# Altium schematic symbol library nPOC-BB_gamma_main-board.SCHLIB: 94 symbols (part 1 of 2)
Pins are listed as number, name and electrical type; pins without a type are passive.

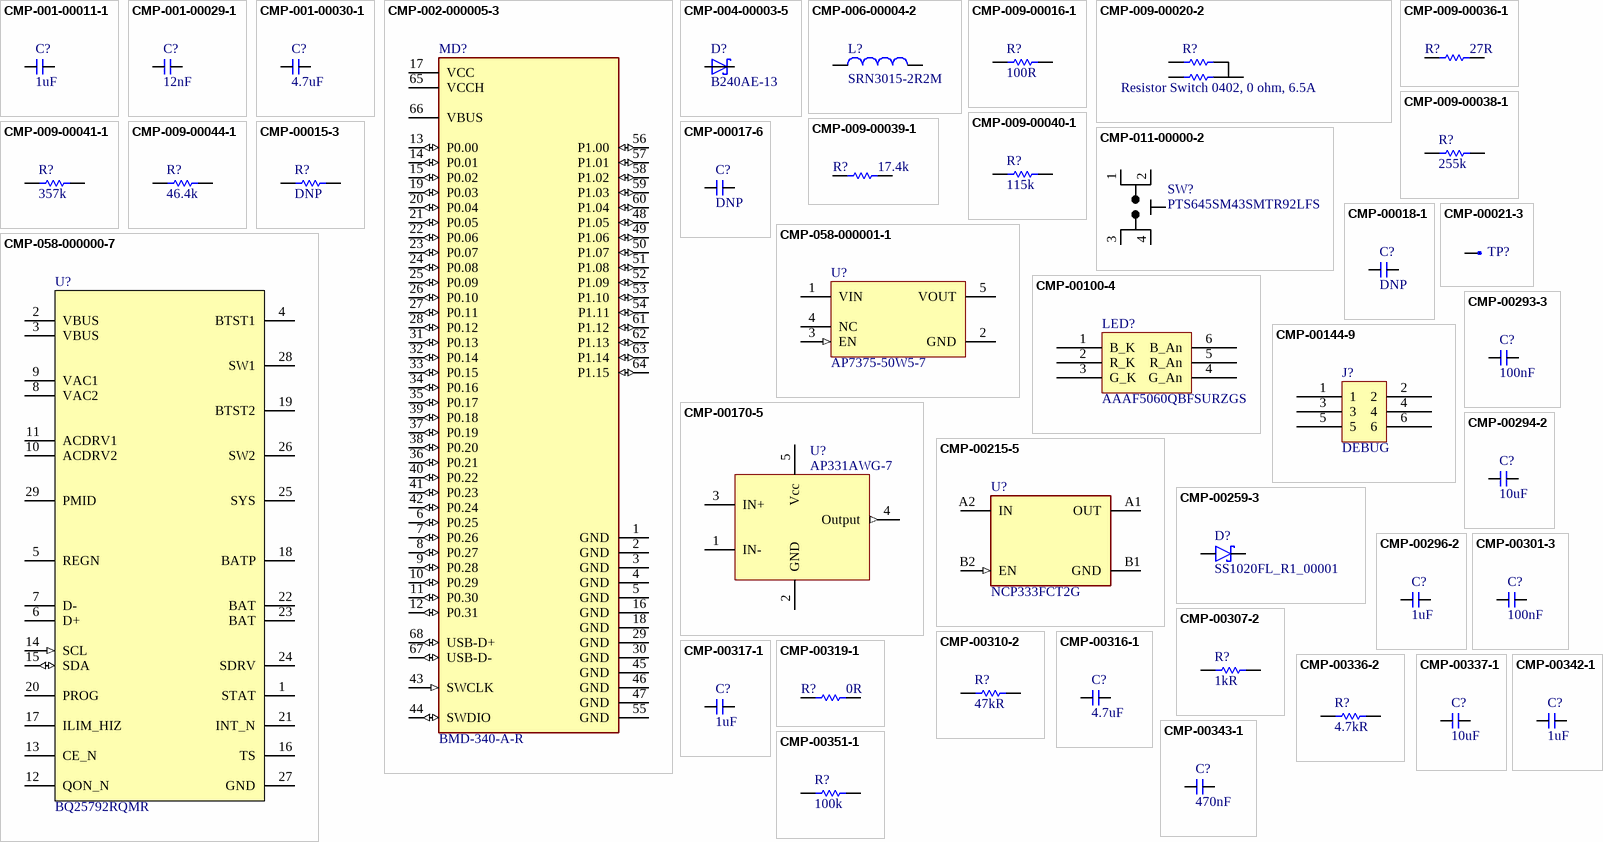
[diagram p0: symbols CMP-001-00011-1 to CMP-00351-1]

## CMP-001-00011-1
designator C?, comment 1uF
Multilayer Ceramic Capacitors MLCC - SMD/SMT 1uF 50V 0603 RoHS; Manufacturer: Taiyo Yuden; Manufacturer Part Number: MSASU168SB5105KTNA01; Manufacturer: Yageo; Manufacturer Part Number: CC0603KRX5R9BB105; Tolerance: 10%; Install: POP; Dielectric: X5R; Max Operating Temperature: 85°C; Packaging: Tape and Reel; Termination: SMD/SMT; Width: 0.031inch; Voltage Rating (DC): 50V; Length: 0.063inch; Halogen Free: Halogen Free; Case/Package: 0603; Package Quantity: 4000; Lead Free: Lead Free; Voltage Rating: 50V; Resistor Type: Ceramic; Value: 1uF; Thickness: 0.035inch; Weight: 7.1E-05oz; Min Operating Temperature: -55°C; Case Code (Metric): 1608; Case Code (Imperial): 0603; Mounting Technology: Surface Mount; RoHS Compliant: Yes; Series: CC; Component Type: Capacitors
footprint C0603
pins: 1, 2

## CMP-001-00029-1
designator C?, comment 12nF
0402 12 nF 16 V ±10% Tolerance X7R SMT Multilayer Ceramic Capacitor; Manufacturer: KEMET; Manufacturer Part Number: C0402C123K4RACTU; Manufacturer: Murata; Manufacturer Part Number: GRM155R71C123KA01D; Voltage: 16V; Install: POP; Case Code (Metric): 1005; Width: 0.5mm; Dielectric: X7R; Case Code (Imperial): 0402; Packaging: Tape and Reel; Voltage Rating: 16V; Pins: 2; RoHS Compliant: Yes; Lead Free: Lead Free; Mounting Technology: Surface Mount; Depth: 0.5mm; Material: Ceramic; Series: GRM; Voltage Rating (DC): 16V; Package Quantity: 1; Thickness: 0.022inch; Radiation Hardening: No; Value: 12nF; Min Operating Temperature: -55°C; Max Operating Temperature: 125°C; Length: 1mm; Termination: SMD/SMT; Tolerance: 10%; Case/Package: 0402; Construction: Flat; Height: 0.5mm; Component Type: Capacitors
footprint C0402
pins: 1, 2

## CMP-001-00030-1
designator C?, comment 4.7uF
Multilayer Ceramic Capacitor, 4.7 uF, 35 V, ± 10%, X7S, 0805 [2012 Metric]; Manufacturer: Samsung; Manufacturer Part Number: CL21A475KBQNNNE; Voltage Rating: 50V; Dielectric: X5R; Install: POP; Value: 4.7uF; Thickness: 0.055inch; Case/Package: 0805; Tolerance: 10%; Max Operating Temperature: 85°C; Depth: 1.25mm; Package Quantity: 1; Voltage Rating (DC): 50V; Min Operating Temperature: -55°C; Length: 2mm; Case Code (Metric): 2012; Width: 0.049inch; Packaging: Tape and Reel; RoHS Compliant: Yes; Mounting Technology: Surface Mount; Case Code (Imperial): 0805; Radiation Hardening: No; Material: Ceramic; Series: CL; Component Type: Capacitors
footprint c0805 (0805)
pins: 1, 2

## CMP-002-000005-3
designator MD?, comment BMD-340-A-R
BMD-340 Series 3.6 V 2.5 GHz -96 dBm Stand-Alone Bluetooth 5 Low Energy Module; Manufacturer: u-blox; Data Rate: 2Mbps; Memory Size: 256KB; MP: BMD-330-A-R; Sensitivity: -103dBm; Current - Transmitting: 26.7mA; Interface: I2C,SPI,UART; Frequency: 2.5GHz; Current - Receiving: 11.7mA; Install: POP; Series: BMD-34; Package: None; Price: None; Source: BMD-330-A-R.SchLib; RoHS Compliant: Yes; Min Operating Temperature: -40°C; Max Operating Temperature: 85°C; Design Item ID: BMD-330-A-R; Case/Package: Module; Packaging: Tape and Reel; Mounting Technology: Surface Mount; Manufacturer Part Number: BMD-340-A-R; Component Type: Wireless
footprint BMD-340-A-R (u-Blox, BMD-340-A-R, Stand-alone Bluetooth 5)
pins: 1 GND (power), 2 GND (power), 3 GND (power), 4 GND (power), 5 GND (power), 6 P0.25 (io), 7 P0.26 (io), 8 P0.27 (io), 9 P0.28 (io), 10 P0.29 (io), 11 P0.30 (io), 12 P0.31 (io), 13 P0.00 (io), 14 P0.01 (io), 15 P0.02 (io), 16 GND (power), 17 VCC (power), 18 GND (power), 19 P0.03 (io), 20 P0.04 (io), 21 P0.05 (io), 22 P0.06 (io), 23 P0.07 (io), 24 P0.08 (io), 25 P0.09 (io), 26 P0.10 (io), 27 P0.11 (io), 28 P0.12 (io), 29 GND (power), 30 GND (power), 31 P0.13 (io), 32 P0.14 (io), 33 P0.15 (io), 34 P0.16 (io), 35 P0.17 (io), 36 P0.21 (io), 37 P0.19 (io), 38 P0.20 (io), 39 P0.18 (io), 40 P0.22 (io), 41 P0.23 (io), 42 P0.24 (io), 43 SWCLK (in), 44 SWDIO (io), 45 GND (power), 46 GND (power), 47 GND (power), 48 P1.05 (io), 49 P1.06 (io), 50 P1.07 (io), 51 P1.08 (io), 52 P1.09 (io), 53 P1.10 (io), 54 P1.11 (io), 55 GND (power), 56 P1.00 (io), 57 P1.01 (io), 58 P1.02 (io), 59 P1.03 (io), 60 P1.04 (io), 61 P1.12 (io), 62 P1.13 (io), 63 P1.14 (io), 64 P1.15 (io), 65 VCCH (power), 66 VBUS (power), 67 USB-D- (io), 68 USB-D+ (io)

## CMP-004-00003-5
designator D?, comment B240AE-13
Diode Schottky 40V 2A 2-Pin DO-214AC T/R; Manufacturer: Diodes; Install: POP; Case/Package: SMA; Average Rectified Current: 2A; Mount: Surface Mount; Packaging: Tape and Reel; RoHS Compliant: Yes; Max Reverse Voltage (DC): 40V; Manufacturer Part Number: B240AE-13; Component Type: Diodes
footprint sma (Diode SMA)
pins: A, K

## CMP-006-00004-2
designator L?, comment SRN3015-2R2M
Ind Power Semi-Shielded Wirewound 2.2uH 20% 1MHz Ferrite 1.8A 1212 T/R; Manufacturer: Bourns; DC Resistance (DCR): 72mR; Saturation Current: 1.65A; Material: Steel; Self Resonant Frequency: 90MHz; Install: POP; Inductance Tolerance: 20%; Reach SVHC Compliant: No; Tolerance: 20%; Max DC Current: 1.8A; Core Material: Ferrite; Military Standard: Not; Max Operating Temperature: 125°C; Sample Rate (Hz): 1MHz; Termination: SMD/SMT; RMS Current (Irms): 1.8A; Case/Package: 1212; Weight: 0.001235oz; Frequency: 90MHz; Value: 2.2uH; Current Rating: 1.8A; Shielding: Shielded; Packaging: Tape and Reel; Pins: 2; Height - Seated (Max): 0.059inch; DC Current: 1.8A; Package Quantity: 2000; Height: 1.5mm; Min Operating Temperature: -40°C; Width: 3mm; Length: 3mm; Depth: 3.1mm; Test Frequency: 1MHz; Series: SRN3015; Radiation Hardening: No; Manufacturer Part Number: SRN3015-2R2M; Component Type: Inductors
footprint IND_BOURNS_SRN3015 (Bourns Inductor SRN3015 Series)
pins: 1, 2

## CMP-009-00016-1
designator R?, comment value 100R  (hidden comment: R0402_100R_1pct)
Res General Purpose Thick Film 0402 100 Ohm 1% 1/16W ±200ppm/°C Molded SMD Paper T/R; Manufacturer: Panasonic; Manufacturer Part Number: ERJ-2RKF1000X; Manufacturer: Vishay; Manufacturer Part Number: CRCW0402100RFKEDC; Manufacturer: Yageo; Manufacturer Part Number: RC0402FR-07100RL; Voltage Rating (DC): 50V; Power Rating: 62.5mW; Install: POP; Max Power Dissipation: 63mW; Temperature Coefficient: 100ppm/°C; Reach SVHC Compliant: No; Construction: Rectangular; Case/Package: 0402; Military Standard: Not; Lead Free: Lead Free; Number of Terminations: 2; Case Code (Metric): 1005; Pins: 2; Width: 0.5mm; Features: Moisture Resistant; Tolerance: 1%; Packaging: Tape and Reel; Depth: 0.5mm; Technology: THICK FILM; Series: RC; Min Operating Temperature: -55°C; Height: 0.32mm; RoHS Compliant: Yes; Max Operating Temperature: 155°C; Voltage Rating: 50V; Case Code (Imperial): 0402; Resistance Tolerance: 1%; Termination: SMD/SMT; Resistor Type: Thick Film; Length: 1mm; Component Type: Resistors
footprint R0402
pins: 1, 2
1 alternate drawing of the same symbol

## CMP-009-00020-2
designator R?, comment Resistor Switch 0402, 0 ohm, 6.5A
Symbol and footprint for Resistor Switch. Part selection for 0402 0 ohm jumper rated for 6.5A. Pads 1 and 2 populated by default.; Manufacturer: Stackpole Electronics; Manufacturer Part Number: HCJ0402ZT0R00; Temperature Coefficient: 200ppm/°C; Max Power Dissipation: 63mW; Resistance: 0R; Power Rating: 3W; Voltage Rating (DC): 50V; Tolerance: 5%; Install: POP; Mount: Surface Mount; Package Quantity: 10000; Max Operating Temperature: 155°C; Contact Plating: Tin; Military Standard: Not; Height: 0.016inch; Resistor Type: Thick Film; Height - Seated (Max): 0.016inch; Case/Package: 0402; Length: 0.039inch; Depth: 0.5mm; Number of Terminations: 2; Packaging: Tape and Reel; Features: Automotive AEC-Q200; Lead Free: Lead Free; Min Operating Temperature: -55°C; Width: 0.02inch; Component Type: Resistors
footprint r0402x2 (Dual 0402 with shared pin)
pins: 1, 2, 3
1 alternate drawing of the same symbol

## CMP-009-00036-1
designator R?, comment 27R
SMD Chip Resistor, 27 Ohm, ± 1%, 100 mW, 0402 [1005 Metric], Thick Film, Precision; Manufacturer: Panasonic; Manufacturer Part Number: ERJ-2RKF27R0X; Install: POP; Temperature Coefficient: 100ppm/°C; Power Rating: 100mW; Voltage Rating (DC): 50V; Min Operating Temperature: -55°C; Number of Terminations: 2; Max Operating Temperature: 155°C; Tolerance: 1%; Mounting Technology: Surface Mount; Lead Free: Lead Free; Width: 0.5mm; Package Quantity: 1; Resistor Type: Thick Film; Weight: 2.8E-05oz; Length: 1mm; Technology: THICK FILM; Case Code (Metric): 1005; Series: ERJ; Resistance Tolerance: 1%; Pins: 2; Reach SVHC Compliant: No; Case/Package: 0402; Packaging: Tape and Reel; Height: 0.35mm; Max Power Dissipation: 100mW; Case Code (Imperial): 0402; Value: 27R; Contact Plating: Tin; Features: Automotive AEC-Q200; Voltage Rating: 50V; Depth: 0.5mm; Termination: SMD/SMT; RoHS Compliant: Yes; Component Type: Resistors
footprint R0402
pins: 1, 2
1 alternate drawing of the same symbol

## CMP-009-00038-1
designator R?, comment 255k
SMD Chip Resistor, 255 kOhm, ± 1%, 100 mW, 0402 [1005 Metric], Thick Film, Precision; Manufacturer: Panasonic; Manufacturer Part Number: ERJ-2RKF2553X; Install: POP; Max Power Dissipation: 100mW; Voltage Rating (DC): 50V; Temperature Coefficient: 100ppm/°C; Value: 255kR; Termination: SMD/SMT; Features: Automotive AEC-Q200; Mounting Technology: Surface Mount; Width: 0.5mm; Series: ERJ; Case Code (Imperial): 0402; Min Operating Temperature: -55°C; Height: 0.35mm; Technology: THICK FILM; Depth: 0.5mm; Military Standard: Not; Construction: Rectangular; Package Quantity: 10000; Lead Free: Lead Free; Tolerance: 1%; Case Code (Metric): 1005; Case/Package: 0402; Ratings: AEC-Q200; Voltage Rating: 50V; Number of Terminations: 2; RoHS Compliant: Yes; Resistor Type: Thick Film; Reach SVHC Compliant: No; Power Rating: 100mW; Length: 1mm; Max Operating Temperature: 155°C; Contact Plating: Tin; Resistance Tolerance: 1%; Packaging: Tape and Reel; Component Type: Resistors
footprint R0402
pins: 1, 2
1 alternate drawing of the same symbol

## CMP-009-00039-1
designator R?, comment 17.4k
Res Thick Film 0402 17.4K Ohm 1% 1/10W ±100ppm/°C Molded SMD Punched Carrier T/R; Manufacturer: Panasonic; Manufacturer Part Number: ERJ-2RKF1742X; Power Rating: 100mW; Voltage Rating: 50V; Install: POP; Value: 17.4kR; Technology: THICK FILM; Ratings: AEC-Q200; Max Operating Temperature: 155°C; Min Operating Temperature: -55°C; Packaging: Tape and Reel; Height: 0.35mm; Resistor Type: Thick Film; Resistance Tolerance: 1%; Number of Terminations: 2; Reach SVHC Compliant: Yes; Termination: SMD/SMT; Package Quantity: 10000; Case Code (Metric): 1005; Lead Free: Lead Free; Depth: 0.5mm; Features: Automotive AEC-Q200; Series: ERJ; Case/Package: 0402; Case Code (Imperial): 0402; Temperature Coefficient: 100ppm/°C; Width: 0.5mm; Tolerance: 1%; Max Power Dissipation: 100mW; Mounting Technology: Surface Mount; Length: 1mm; RoHS Compliant: Yes; Radiation Hardening: No; Voltage Rating (DC): 50V; Contact Plating: Tin; Component Type: Resistors
footprint R0402
pins: 1, 2
1 alternate drawing of the same symbol

## CMP-009-00040-1
designator R?, comment 115k
SMD Chip Resistor, 115 kOhm, ± 1%, 100 mW, 0402 [1005 Metric], Thick Film, Precision; Manufacturer: Panasonic; Manufacturer Part Number: ERJ-2RKF1153X; Temperature Coefficient: 100ppm/°C; Voltage Rating: 50V; Value: 115kR; Max Power Dissipation: 100mW; Install: POP; Width: 0.5mm; Depth: 0.5mm; Weight: 2.8E-05oz; Military Standard: Not; Max Operating Temperature: 155°C; Reach SVHC Compliant: No; Lead Free: Lead Free; Series: ERJ; Termination: SMD/SMT; Tolerance: 1%; RoHS Compliant: Yes; Case/Package: 0402; Features: Automotive AEC-Q200; Length: 1mm; Mounting Technology: Surface Mount; Voltage Rating (DC): 50V; Technology: THICK FILM; Min Operating Temperature: -55°C; Construction: Rectangular; Number of Terminations: 2; Resistor Type: Thick Film; Case Code (Imperial): 0402; Height: 0.35mm; Resistance Tolerance: 1%; Case Code (Metric): 1005; Packaging: Tape and Reel; Package Quantity: 10000; Power Rating: 100mW; Contact Plating: Tin; Ratings: AEC-Q200; Component Type: Resistors
footprint R0402
pins: 1, 2
1 alternate drawing of the same symbol

## CMP-009-00041-1
designator R?, comment 357k
Res Thick Film 0402 357K Ohm 1% 0.1W ±100ppm/°C Molded SMD Punched Carrier T/R; Manufacturer: Panasonic; Manufacturer Part Number: ERJ-2RKF3573X; Install: POP; Value: 357kR; Voltage Rating (DC): 50V; Max Power Dissipation: 100mW; Features: Automotive AEC-Q200; Reach SVHC Compliant: No; Resistor Type: Thick Film; Series: ERJ; Case/Package: 0402; Contact Plating: Tin; Tolerance: 1%; Max Operating Temperature: 155°C; Termination: SMD/SMT; Number of Terminations: 2; Military Standard: Not; Lead Free: Contains Lead; Min Operating Temperature: -55°C; Case Code (Metric): 1005; Resistance Tolerance: 1%; Length: 1mm; Construction: Rectangular; Technology: THICK FILM; Height: 0.35mm; Voltage Rating: 50V; Case Code (Imperial): 0402; Power Rating: 100mW; Package Quantity: 10000; Width: 0.5mm; RoHS Compliant: Yes; Mounting Technology: Surface Mount; Temperature Coefficient: 100ppm/°C; Packaging: Tape and Reel; Ratings: AEC-Q200; Depth: 0.5mm; Component Type: Resistors
footprint R0402
pins: 1, 2
1 alternate drawing of the same symbol

## CMP-009-00044-1
designator R?, comment 46.4k
Resistor, Metal Glaze/Thick Film, 0.1 W, 1 %, 100 Ppm, 46400 Ohm, Surface Mount, 0402; Manufacturer: Panasonic; Manufacturer Part Number: ERJ-2RKF4642X; Install: POP; Value: 46.4kR; Tolerance: 1%; Power Rating: 100mW; Voltage Rating: 50V; Temperature Coefficient: 100ppm/°C; Height: 0.35mm; Number of Terminations: 2; Package Quantity: 10000; Termination: SMD/SMT; Depth: 0.5mm; Series: ERJ; Case Code (Imperial): 0402; RoHS Compliant: Yes; Resistance Tolerance: 1%; Max Operating Temperature: 155°C; Technology: THICK FILM; Case/Package: 0402; Packaging: Tape and Reel; Ratings: AEC-Q200; Lead Free: Lead Free; Mounting Technology: Surface Mount; Length: 1mm; Voltage Rating (DC): 50V; Features: Automotive AEC-Q200; Min Operating Temperature: -55°C; Contact Plating: Tin; Reach SVHC Compliant: No; Max Power Dissipation: 100mW; Radiation Hardening: No; Width: 0.5mm; Case Code (Metric): 1005; Resistor Type: Thick Film; Component Type: Resistors
footprint R0402
pins: 1, 2
1 alternate drawing of the same symbol

## CMP-011-00000-2
designator SW?, comment PTS645SM43SMTR92LFS
Switch Tactile N.O. SPST Round Button Gull Wing 0.05A 12VDC 100000Cycles 1.57N SMD T/R; Manufacturer: ITT C&K; Actuator Type: Standard; Operating Force: 160gf; Number of Positions: 2; Illumination Type: Non-Illuminated,Illuminated; Actuator Material: Nylon,Polyamide,PA66; Max Current Rating: 50mA; Actuator Length: 0.85mm; Switch Function: Off-Mom; Install: POP; Max Voltage Rating (DC): 12V; Contact Resistance: 100mR; Contact Material: Silver; Size: 6mm; Min Operating Temperature: -20°C; RoHS Compliant: Yes; Depth: 9mm; Contact Plating: Silver; Lead Free: Lead Free; Case/Package: SMD/SMT; Length: 6mm; Termination: Gull Wing; Max Operating Temperature: 60°C; Throw Configuration: SPST; Orientation: Straight; Mounting Technology: Surface Mount; Current Rating: 50mA; Contact Current Rating: 50mA; Mechanical Life: 100000Cycles; Packaging: Tape and Reel; Package Quantity: 1; Voltage Rating (DC): 12V; Color: Black; Reach SVHC Compliant: No; Series: PTS645; Manufacturer Part Number: PTS645SM43SMTR92LFS; Component Type: Switches
footprint swt_pb_pts645s (C&K PTS645SM43SMTR92LFS G-Type 6mm Tact Switch)
pins: 1, 2, 3, 4

## CMP-00015-3
designator R?, comment DNP
Unpopulated 0402 pads. No part number associated with this "component"; Odic Footprint: R0402; Install: DNP; Component Type: Resistors
footprint R0402
pins: 1, 2
1 alternate drawing of the same symbol

## CMP-00017-6
designator C?, comment DNP
Blank pads for future cap placements; Odic Footprint: C0402; Install: DNP; Component Type: Capacitors
footprint C0402
pins: 1, 2

## CMP-00018-1
designator C?, comment Install: DNP  (hidden comment: N/A)
DNP CAP; Manufacturer: Samsung; Manufacturer Part Number: CL10B104KB8NNWC; Odic Footprint: C0603; Value: .1uF; Tolerance: 10%; Voltage Rating: 50V; Dielectric: X7R; ComponentLink1URL: https://datasheet.ciiva.com/6277/s0717e-6277799.pdf?src-supplier=Digi-Key; ComponentLink1Description: https://datasheet.ciiva.com/6277/s0717e-6277799.pdf?src-supplier=Digi-Key; ComponentLink2URL: https://datasheet.ciiva.com/6277/s0717e-6277800.pdf?src-supplier=Digi-Key; ComponentLink2Description: https://datasheet.ciiva.com/6277/s0717e-6277800.pdf?src-supplier=Digi-Key; ComponentLink3URL: https://datasheet.ciiva.com/6277/s0717e-6277801.pdf?src-supplier=Digi-Key; ComponentLink3Description: https://datasheet.ciiva.com/6277/s0717e-6277801.pdf?src-supplier=Digi-Key; Supplier 1: Digi-Key; Supplier Part Number 1: 1276-1935-1-ND; RoHS: Yes; Category: Ceramic Capacitors; Stock 1: 1643; Pricing 1: 1=0.10000, 10=0.02000, 50=0.01100, 100=0.00910, 500=0.00646, 1000=0.00508 (USD); Mount: Surface Mount; Case/Package: 0603; Case Code (Metric): 1608; Case Code (Imperial): 0603; Contact Plating: Tin; Min Operating Temperature: -55°C; Max Operating Temperature: 125°C; Package Quantity: 1; Packaging: Cut Tape; Termination: Wraparound; Series: CL; Construction: Flat; Length: 0.063inch; Width: 0.031inch; Thickness: 0.035inch; RoHS Compliant: Yes; ComponentLink4URL: https://datasheet.ciiva.com/25740/cl10b104kb8nnwc-25740227.pdf?src-supplier=Digi-Key; ComponentLink4Description: https://datasheet.ciiva.com/25740/cl10b104kb8nnwc-25740227.pdf?src-supplier=Digi-Key; Component Type: Capacitors
footprint C0603
pins: 1, 2

## CMP-00021-3
designator TP?, comment TPC30  (value not drawn)
Test Point Circle 30; Install: DNP
footprint tpc30
pins: 1 "Test point 45 ring 20 hole"

## CMP-058-000000-7
designator U?, comment BQ25792RQMR
I2C Controlled, 1-4 Cell, 5-A Buck-Boost Battery Charger with Dual-Input; Mfr_Name: Texas Instruments; Install: POP; TYPE: TYPE; Source: PQ25792RQMR.SchLib; Design Item ID: BQ25792RQMR; RefDes: RefDes; RoHS Compliant: Yes; Manufacturer: Texas Instruments; Manufacturer Part Number: BQ25792RQMR; Component Type: Power Supply
footprint qfn29_4x4_p4mm-RQM0029A (QFN 29 pin, 4x4mm, 0.4mm pitch, TI RQM0029A package)
pins: 1 STAT, 2 VBUS (power), 3 VBUS (power), 4 BTST1, 5 REGN, 6 D+, 7 D-, 8 VAC2 (power), 9 VAC1 (power), 10 ACDRV2 (power), 11 ACDRV1 (power), 12 QON_N, 13 CE_N, 14 SCL (in), 15 SDA (io), 16 TS, 17 ILIM_HIZ, 18 BATP, 19 BTST2, 20 PROG, 21 INT_N, 22 BAT, 23 BAT, 24 SDRV, 25 SYS, 26 SW2, 27 GND (power), 28 SW1, 29 PMID

## CMP-058-000001-1
designator U?, comment AP7375-50W5-7
Fixed 5V LDO Voltage Regulators LDO CMOS LowCurr SOT23 TR 3K; Manufacturer: Diodes; Install: POP; Output Voltage: 5V; Manufacturer Part Number: AP7375-50W5-7; Component Type: Power Supply
footprint SOT25 (Diodes SOT25)
pins: 1 VIN (power), 2 GND (power), 3 EN (in), 4 NC, 5 VOUT (power)

## CMP-00100-4
designator LED?, comment AAAF5060QBFSURZGS
Blue/Red/Green 100º 400/800/1000 mcd Clear Surface Mount LED Lamp; Manufacturer: Kingbright; Dominant Wavelength: 465nm; Viewing Angle: 100°; Test Current: 30mA; Forward Voltage: 3.3V; Color: Blue,Green,Red; Luminous Intensity: 400mcd; Install: POP; Forward Current: 20mA; Packaging: Cut Tape; Lens Style: Clear; Package Quantity: 500; Min Operating Temperature: -40°C; RoHS Compliant: Yes; Height: 2.3mm; Case/Package: SMD/SMT; Lens Color: Clear; Width: 6mm; Max Operating Temperature: 85°C; Lead Free: Lead Free; Illumination Color: Blue,Green,Red; Mount: Surface Mount; Length: 5mm; Manufacturer Part Number: AAAF5060QBFSURZGS; Component Type: Diodes
footprint led6_smt_5x6mm (Kingbright  AAAF5060QFBSURZGS)
pins: 1 B_K, 2 R_K, 3 G_K, 4 G_An, 5 R_An, 6 B_An

## CMP-00144-9
designator J?, comment DEBUG
6 Pin Tag-Connect Header Footprint. Pads.; Install: DNP; Component Type: Connectors
footprint tc2030-mcp-nl
pins: 1, 2, 3, 4, 5, 6

## CMP-00170-5
designator U?, comment AP331AWG-7
IC COMPARATOR SGL DIFF SOT-25; Manufacturer: Diodes; Natural Thermal Resistance: 173°C/W; Voltage Gain: 106.02dB; Power Dissipation: 740mW; Supply Current: 1mA; Min Dual Supply Voltage: 1V; Max Supply Voltage: 36V; Number of Elements: 1; Quiescent Current: 2.5mA; Input Bias Current: 400nA; Response Time: 1.3us; Input Offset Voltage (Vos): 8mV; Output Type: TTL; Output Compatibility: CMOS; Min Supply Voltage: 2V; Output Current: 16mA; Max Dual Supply Voltage: 18V; Install: POP; Length: 3.1mm; Lead Free: Lead Free; Series: -; Type: General Purpose; Technology: BIPOLAR; Width: 1.7mm; Max Operating Temperature: 70°C; Mount: Surface Mount; Nominal Supply Current: 1mA; Package Quantity: 3000; Radiation Hardening: No; Max Supply Current: 1mA; Min Operating Temperature: 0°C; Packaging: Tape and Reel; Max Input Current: 400nA; REACH SVHC: No SVHC; Max Power Dissipation: 740mW; Height: 1.3mm; Number of Channels: 1; Number of Pins: 5; Case/Package: SOT-25; RoHS Compliant: Yes; Manufacturer Part Number: AP331AWG-7; Component Type: Logic
footprint SOT25 (Diodes SOT25)
pins: 1 IN- (hiz), 2 GND (power), 3 IN+ (hiz), 4 Output (out), 5 Vcc (power)

## CMP-00215-5
designator U?, comment NCP333FCT2G
IC LOAD SWITCH W/DIS 1.5A 4WLCSP; Manufacturer: ON Semiconductor; On-State Resistance: 400mR; Turn-On Delay Time: 195us; Install: POP; Power Dissipation: 400mW; Number of Outputs: 1; Output Configuration: High Side; Operating Supply Voltage: 5.5V; Interface: On/Off; Packaging: Tape and Reel; Max Supply Current: 1.5A; Number of Pins: 4; Package Quantity: 3000; Max Operating Temperature: 85°C; RoHS Compliant: Yes; Min Operating Temperature: -40°C; Lead Free: Lead Free; Output Current: 1.5A; Max Power Dissipation: 400mW; Mount: Surface Mount; Series: -; Max Output Current: 1.5A; Halogen Free: Halogen Free; Manufacturer Part Number: NCP333FCT2G; Component Type: Power Supply
footprint bga4_p743xp743_p4mm (Flip Chip 4 pin)
pins: A1 OUT (power), A2 IN (power), B1 GND (power), B2 EN (in)

## CMP-00259-3
designator D?, comment SS1020FL_R1_00001
Diode Schottky 20V 1A 2-Pin SOD-123FL T/R; Manufacturer: Pan Jit; Peak Non-Repetitive Surge Current: 40A; Element Configuration: Single; Max Reverse Current: 500uA; Install: POP; Radiation Hardening: No; Max Repetitive Reverse Voltage (Vrrm): 20V; Mount: Surface Mount; RoHS Compliant: Yes; Min Operating Temperature: -55°C; Max Operating Temperature: 125°C; Number of Pins: 2; Manufacturer Part Number: SS1020FL_R1_00001; Component Type: Diodes
footprint sod-123fl_AK (Sod-123fl with pin A & K)
pins: A, K

## CMP-00293-3
designator C?, comment 100nF
CAP CER 0.1UF 50V X7R 0603; Manufacturer: Samsung; Manufacturer Part Number: CL10B104KB8NNWC; Manufacturer: Kyocera AVX; Manufacturer Part Number: 06035C104KAT4A; Tolerance: 10%; Install: POP; Termination: Wraparound; Length: 0.063inch; Dielectric: X7R; RoHS Compliant: Yes; Case Code (Metric): 1608; Packaging: Cut Tape; Voltage Rating: 50V; Max Operating Temperature: 125°C; Mount: Surface Mount; Case Code (Imperial): 0603; Capacitance: 100nF; Thickness: 0.035inch; Width: 0.031inch; Series: CL; Construction: Flat; Case/Package: 0603; Contact Plating: Tin; Package Quantity: 1; Min Operating Temperature: -55°C; Component Type: Capacitors
footprint C0603
pins: 1, 2

## CMP-00294-2
designator C?, comment 10uF
Cap Ceramic 10uF 35V X5R 20% Pad SMD 0603 85C T/R; Manufacturer: Kyocera AVX; Manufacturer Part Number: 0603DD106MAT2A; Manufacturer: Murata; Manufacturer Part Number: GRM188R6YA106MA73D; Install: POP; Case Code (Metric): 1608; Length: 0.063inch; Case Code (Imperial): 0603; Thickness: 0.039inch; Width: 0.031inch; RoHS Compliant: Yes; Voltage Rating: 35V; Dielectric: X5R; Series: GRM; Case/Package: 0603; Voltage Rating (DC): 35V; Mount: Surface Mount; Capacitance: 10uF; Tolerance: 20%; Max Operating Temperature: 85°C; Packaging: Cut Tape; Min Operating Temperature: -55°C; Component Type: Capacitors
footprint C0603
pins: 1, 2

## CMP-00296-2
designator C?, comment 1uF
CAP CER 1UF 16V X5R 0603; Manufacturer: Samsung; Manufacturer Part Number: CL10A105KO8NNNC; Manufacturer: Kyocera AVX; Manufacturer Part Number: 0603YD105KAT2A; Manufacturer: TDK; Manufacturer Part Number: C1608X7R1C105K080AC; Manufacturer: Taiyo Yuden; Manufacturer Part Number: EMK107BJ105KA-T; Tolerance: 10%; Install: POP; Material: Ceramic; Length: 1.6mm; Packaging: Tape and Reel; Width: 0.031inch; Voltage Rating: 16V; Construction: Flat; Package Quantity: 1; RoHS Compliant: Yes; Series: CL; Thickness: 0.035inch; Capacitance: 1uF; Min Operating Temperature: -55°C; Case/Package: 0603; Height: 0.8mm; Lead Free: Lead Free; Dielectric: X5R; Depth: 0.8mm; Radiation Hardening: No; Contact Plating: Tin; Voltage: 16V; Mount: Surface Mount; Voltage Rating (DC): 16V; Case Code (Metric): 1608; Max Operating Temperature: 85°C; Case Code (Imperial): 0603; Component Type: Capacitors
footprint C0603
pins: 1, 2

## CMP-00301-3
designator C?, comment Capacitance: 100nF  (hidden comment: C0402_100n_16V_10pct)
0.1 µF ±10% 16V Ceramic Capacitor X7R 0402 (1005 Metric); Manufacturer: Samsung; Manufacturer Part Number: CL05B104KO5NNNC; Manufacturer: TDK; Manufacturer Part Number: CGA2B1X7R1C104K050BC; Manufacturer: Taiyo Yuden; Manufacturer Part Number: EMK105B7104KV-F; Install: POP; Voltage: 16V; Voltage Rating (DC): 16V; Case/Package: 0402; RoHS Compliant: Yes; Dielectric Material: Ceramic; Package Quantity: 1; Dielectric: X7R; Termination: SMD/SMT; Depth: 0.5mm; Radiation Hardening: No; Construction: Flat; Tolerance: 10%; Case Code (Imperial): 0402; Voltage Rating: 16V; Max Operating Temperature: 125°C; Length: 1mm; Lead Free: Lead Free; REACH SVHC: No SVHC; Packaging: Tape and Reel; Mount: Surface Mount,PCB; Series: -; Case Code (Metric): 1005; Min Operating Temperature: -55°C; Width: 0.02inch; Thickness: 0.022inch; Height: 0.56mm; Contact Plating: Tin,Matte; Component Type: Capacitors
footprint C0402
pins: 1, 2

## CMP-00307-2
designator R?, comment Resistance: 1kR  (hidden comment: R0402_1k0_1pct)
Surface Mount Chip Resistor, Thick Film, RC Series, 1 kohm, 62.5 mW, 1%, 50 V, 0402 [1005 Metric]; Manufacturer: Vishay; Manufacturer Part Number: CRCW04021K00FKEDC; Manufacturer: Stackpole Electronics; Manufacturer Part Number: RMCF0402FT1K00; Manufacturer: Yageo; Manufacturer Part Number: RC0402FR-071KL; Voltage Rating (DC): 50V; Install: POP; Temperature Coefficient: 100ppm/°C; Power Rating: 62.5mW; Max Power Dissipation: 63mW; Length: 1mm; Resistance Tolerance: 1%; Lead Free: Lead Free; Size Code: 0402; Technology: THICK FILM; Case/Package: 0402; RoHS Compliant: Yes; Series: RC; Number of Pins: 2; Height: 0.32mm; Tolerance: 1%; Resistor Type: Thick Film; Military Standard: Not; Termination: SMD/SMT; Voltage Rating: 50V; Construction: Rectangular; Packaging: Tape and Reel; Depth: 0.5mm; Features: Moisture Resistant; REACH SVHC: No SVHC; Width: 0.5mm; Min Operating Temperature: -55°C; Max Operating Temperature: 155°C; Number of Terminations: 2; Case Code (Metric): 1005; Case Code (Imperial): 0402; Component Type: Resistors
footprint R0402
pins: 1, 2
1 alternate drawing of the same symbol

## CMP-00310-2
designator R?, comment Resistance: 47kR  (hidden comment: R0402_47k_1pct)
Res General Purpose Thick Film 0402 47K Ohm 1% 1/16W ±100ppm/°C Molded SMD Paper T/R; Manufacturer: Stackpole Electronics; Manufacturer Part Number: RMCF0402FT47K0; Manufacturer: Yageo; Manufacturer Part Number: RC0402FR-0747KL; Power Rating: 62.5mW; Voltage Rating: 50V; Max Power Dissipation: 63mW; Install: POP; Tolerance: 1%; Max Operating Temperature: 155°C; Depth: 0.5mm; Height: 0.016inch; Case Code (Metric): 1005; Min Operating Temperature: -55°C; REACH SVHC: Unknown; Package Quantity: 1; Case/Package: 0402; Features: Moisture Resistant; Number of Terminations: 2; RoHS Compliant: Yes; Construction: Rectangular; Resistance Tolerance: 1%; Size Code: 0402; Length: 1mm; Lead Free: Lead Free; Case Code (Imperial): 0402; Military Standard: Not; Resistor Type: Thick Film; Termination: SMD/SMT; Packaging: Tape and Reel; Temperature Coefficient: 100ppm/°C; Width: 0.02inch; Series: RC; Component Type: Resistors
footprint R0402
pins: 1, 2
1 alternate drawing of the same symbol

## CMP-00316-1
designator C?, comment Capacitance: 4.7uF  (hidden comment: C0402_4u7_10V_20pct)
Cap Ceramic 4.7uF 10V X5R 20% SMD 0402 85°C Paper T/R; Manufacturer: TDK; Manufacturer Part Number: C1005X5R1A475K050BC; Manufacturer: Samsung; Manufacturer Part Number: CL05A475MP5NRNC; Manufacturer: Yageo; Manufacturer Part Number: CC0402MRX5R6BB475; Manufacturer: Taiyo Yuden; Manufacturer Part Number: LMK105BBJ475MVLF; Install: POP; Width: 0.02inch; Package Quantity: 10000; Min Operating Temperature: -55°C; Mount: Surface Mount; Case Code (Imperial): 0402; Case/Package: 0402; Series: CL; Packaging: Cut Tape; Length: 0.039inch; Dielectric: X5R; Voltage Rating: 10V; Thickness: 0.022inch; Tolerance: 20%; Max Operating Temperature: 85°C; RoHS Compliant: Yes; Case Code (Metric): 1005; Lead Free: Lead Free; Component Type: Capacitors
footprint C0402
pins: 1, 2

## CMP-00317-1
designator C?, comment 1uF
CAP CER 1UF 16V X5R 0402; Manufacturer: Taiyo Yuden; Manufacturer Part Number: EMK105BJ105KV-F; Manufacturer: Kyocera AVX; Manufacturer Part Number: 0402YD105KAT2A; Manufacturer: TDK; Manufacturer Part Number: CGB2A1X5R1C105K033BC; Manufacturer: Murata; Manufacturer Part Number: GRT155R61C105KE01D; Manufacturer: Samsung; Manufacturer Part Number: CL05A105KO5NNNC; Install: POP; Tolerance: 10%; Thickness: 0.022inch; Radiation Hardening: No; Voltage Rating: 16V; Length: 1mm; Voltage: 16V; Capacitance: 1uF; Dielectric: X5R; Packaging: Tape and Reel; Contact Plating: Tin; Min Operating Temperature: -55°C; Series: CL; Depth: 0.5mm; Case Code (Imperial): 0402; Case Code (Metric): 1005; Package Quantity: 1; RoHS Compliant: Yes; Height: 0.5mm; Mount: Surface Mount; Max Operating Temperature: 85°C; Case/Package: 0402; Width: 0.02inch; Construction: Flat; Component Type: Capacitors
footprint C0402
pins: 1, 2

## CMP-00319-1
designator R?, comment 0R
RES 0 OHM JUMPER 1/16W 0402; Manufacturer: Stackpole Electronics; Manufacturer Part Number: RMCF0402ZT0R00; Max Power Dissipation: 63mW; Install: POP; Working Voltage: 50V; Current Rating: 1A; Case/Package: 0402; Max Operating Temperature: 155°C; Contact Plating: Tin,Matte; Height: 0.016inch; RoHS Compliant: Yes; Lead Free: Lead Free; Length: 0.039inch; Case Code (Imperial): 0402; Resistor Type: Thick Film; Military Standard: Not; Width: 0.02inch; Construction: Rectangular; Features: Automotive AEC-Q200; Depth: 0.5mm; Case Code (Metric): 1005; Technology: THICK FILM; Number of Terminations: 2; Power Rating: 63mW; Radiation Hardening: No; Min Operating Temperature: -55°C; Series: RMCF; Packaging: Tape and Reel; Mount: Surface Mount; Resistance: 0R; Component Type: Resistors
footprint R0402
pins: 1, 2
1 alternate drawing of the same symbol

## CMP-00336-2
designator R?, comment Resistance: 4.7kR  (hidden comment: R0402_4k7_1pct)
RES 4.7K OHM 1% 1/16W 0402; Manufacturer: Stackpole Electronics; Manufacturer Part Number: RMCF0402FT4K70; Manufacturer: Yageo; Manufacturer Part Number: RC0402FR-074K7L; Manufacturer: TE Connectivity; Manufacturer Part Number: CRGCQ0402F4K7; Install: POP; Temperature Coefficient: 100ppm/°C; Voltage Rating: 50V; Max Power Dissipation: 63mW; Power Rating: 62.5mW; Features: Moisture Resistant; Length: 1mm; REACH SVHC: No SVHC; RoHS Compliant: Yes; Military Standard: Not; Size Code: 0402; Series: RC; Width: 0.5mm; Lead Free: Lead Free; Max Operating Temperature: 155°C; Height: 0.32mm; Voltage Rating (DC): 50V; Construction: Rectangular; Packaging: Tape and Reel; Tolerance: 1%; Case Code (Metric): 1005; Case Code (Imperial): 0402; Number of Pins: 2; Resistor Type: Thick Film; Number of Terminations: 2; Termination: SMD/SMT; Min Operating Temperature: -55°C; Case/Package: 0402; Height - Seated (Max): 0.016inch; Resistance Tolerance: 1%; Depth: 0.5mm; Component Type: Resistors
footprint R0402
pins: 1, 2
1 alternate drawing of the same symbol

## CMP-00337-1
designator C?, comment 10uF
Cap Ceramic 10uF 6.3V X5R 20% SMD 0402 85°C Paper T/R; Manufacturer: Yageo; Manufacturer Part Number: CC0402MPX5R5BB106; Manufacturer: Murata; Manufacturer Part Number: GRM155R60J106ME15J; Manufacturer: Samsung; Manufacturer Part Number: CL05A106MQ5NUNC; Manufacturer: Kyocera AVX; Manufacturer Part Number: 04026D106MAT2A; Install: POP; Mount: Surface Mount; Construction: Flat; Case Code (Imperial): 0402; Case/Package: 0402; Series: CL; Package Quantity: 1; Width: 0.02inch; Dielectric: X5R; Radiation Hardening: No; Case Code (Metric): 1005; Capacitance: 10uF; RoHS Compliant: Yes; Depth: 0.5mm; Height: 0.5mm; Packaging: Tape and Reel; Min Operating Temperature: -55°C; Tolerance: 20%; Voltage Rating: 6.3V; Max Operating Temperature: 85°C; Thickness: 0.028inch; Length: 1mm; Component Type: Capacitors
footprint C0402
pins: 1, 2

## CMP-00342-1
designator C?, comment Capacitance: 1uF  (hidden comment: C0402_1u_6V3_10pct)
Cap Ceramic 1uF 6.3V X5R 10% SMD 0402 85C Paper T/R; Manufacturer: Yageo; Manufacturer Part Number: CC0402KRX5R5BB105; Manufacturer: Samsung; Manufacturer Part Number: CL05A105KQ5NNNC; Manufacturer: Murata; Manufacturer Part Number: GRM155R70J105KA12J; Manufacturer: Taiyo Yuden; Manufacturer Part Number: JMK105BJ105KV-F; Install: POP; Max Operating Temperature: 85°C; RoHS Compliant: Yes; Number of Pins: 2; Packaging: Tape and Reel; Thickness: 0.022inch; Lead Free: Lead Free; Package Quantity: 10000; Tolerance: 10%; Height: 0.5mm; Depth: 0.5mm; Construction: Flat; Radiation Hardening: No; REACH SVHC: No SVHC; Dielectric: X5R; Resistor Type: Ceramic; Min Operating Temperature: -55°C; Series: M; Width: 0.5mm; Case/Package: 0402; Voltage Rating: 6.3V; Case Code (Imperial): 0402; Length: 1mm; Voltage Rating (DC): 6.3V; Halogen Free: Halogen Free; Termination: SMD/SMT; Mount: Surface Mount; Case Code (Metric): 1005; Component Type: Capacitors
footprint C0402
pins: 1, 2

## CMP-00343-1
designator C?, comment Capacitance: 470nF  (hidden comment: C0402_470n_6V3_10pct)
Ceramic capacitor SMD-0402 470nF /6, 3V X5R# K +-10%, Samsung, RoHS; Manufacturer Part Number: CL05A474KQ5NNNC; Manufacturer: KEMET; Manufacturer Part Number: C0402C474K9PACTU; Manufacturer: Taiyo Yuden; Manufacturer Part Number: JMK105B7474KVHF; Manufacturer: Yageo; Manufacturer Part Number: CC0402KRX5R5BB474; Dielectric: X5R; Voltage Rating: 6.3V; Install: POP; Tolerance: 10%; Height: 0.5mm; Case/Package: 0402; Contact Plating: Tin; Series: CL; Voltage Rating (DC): 6.3V; Lead Free: Lead Free; Mount: Surface Mount; Width: 0.02inch; Length: 1mm; Voltage: 6.3V; Thickness: 0.022inch; Package Quantity: 1; Case Code (Metric): 1005; Packaging: Tape and Reel; Radiation Hardening: No; Min Operating Temperature: -55°C; Depth: 0.5mm; Case Code (Imperial): 0402; RoHS Compliant: Yes; Construction: Flat; Max Operating Temperature: 85°C; Manufacturer: Samsung; Component Type: Capacitors
footprint C0402
pins: 1, 2

## CMP-00351-1
designator R?, comment 100k
Res General Purpose Thick Film 0402 100K Ohm 1% 1/16W ±100ppm/°C Molded SMD Paper T/R; Manufacturer: Yageo; Manufacturer Part Number: RC0402FR-07100KL; Manufacturer: Stackpole Electronics; Manufacturer Part Number: RMCF0402FT100K; Working Voltage: 50V; Resistance: 100kR; Install: POP; Power Rating: 63mW; Series: RC; Military Standard: Not; Case Code (Metric): 1005; Features: Moisture Resistant; Termination: SMD/SMT; Number of Terminations: 2; Temperature Coefficient: 100ppm/°C; Height: 0.016inch; Tolerance: 1%; Case/Package: 0402; Depth: 0.5mm; RoHS Compliant: Yes; Resistance Tolerance: 1%; Lead Free: Lead Free; Max Operating Temperature: 155°C; Min Operating Temperature: -55°C; Width: 0.02inch; Packaging: Tape and Reel; Technology: THICK FILM; Case Code (Imperial): 0402; Package Quantity: 1; REACH SVHC: No SVHC; Resistor Type: Thick Film; Max Power Dissipation: 63mW; Voltage Rating: 50V; Length: 0.039inch; Construction: Rectangular; Component Type: Resistors
footprint R0402
pins: 1, 2
1 alternate drawing of the same symbol

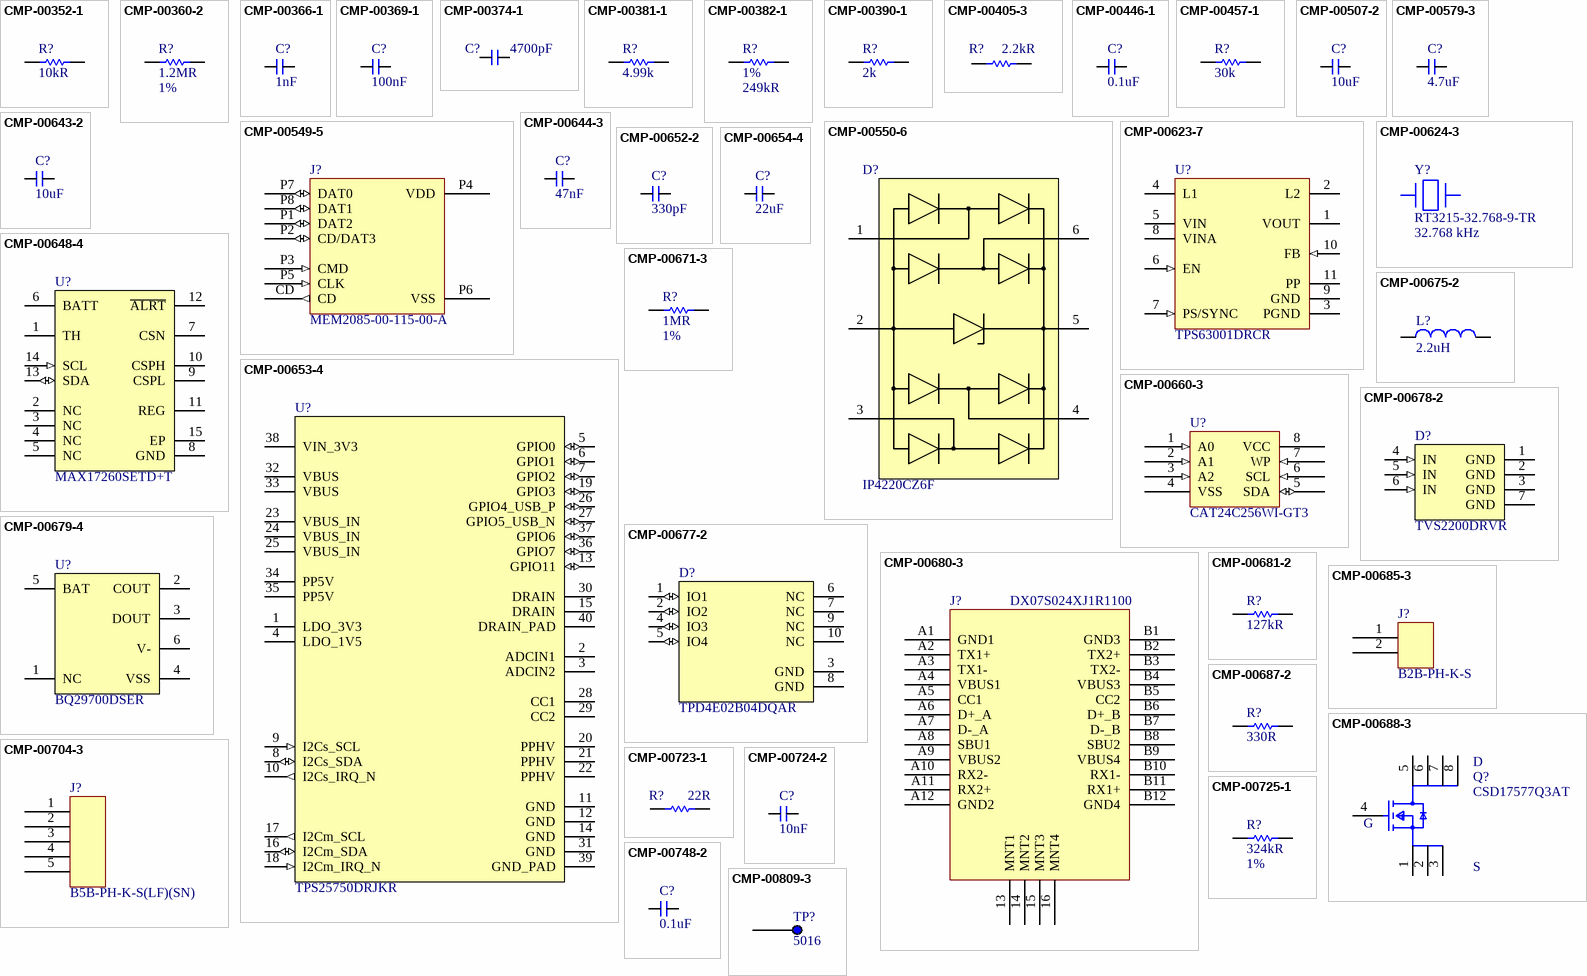
[diagram p1: symbols CMP-00352-1 to CMP-00809-3]

## CMP-00352-1
designator R?, comment Resistance: 10kR  (hidden comment: R0402_10k_1pct)
Res Thick Film 0402 10K Ohm 1% 1/16W ±100ppm/°C Molded SMD SMD T/R; Manufacturer: Stackpole Electronics; Manufacturer Part Number: RMCF0402FT10K0; Manufacturer: Yageo; Manufacturer Part Number: RC0402FR-0710KL; Manufacturer: Samsung; Manufacturer Part Number: RC1005F103CS; Max Power Dissipation: 63mW; Install: POP; RoHS Compliant: Yes; Number of Terminations: 2; Case/Package: 0402; Case Code (Metric): 1005; Length: 0.039inch; Military Standard: Not; Size Code: 0402; Series: RC; Height: 0.016inch; Contact Plating: Tin; Features: Moisture Resistant; Width: 0.02inch; Mount: Surface Mount; Temperature Coefficient: 100ppm/°C; Package Quantity: 1; Resistor Type: Thick Film; Min Operating Temperature: -55°C; Max Operating Temperature: 155°C; Power Rating: 63mW; Tolerance: 1%; Depth: 0.5mm; Case Code (Imperial): 0402; Construction: Rectangular; Packaging: Tape and Reel; Radiation Hardening: No; Component Type: Resistors
footprint R0402
pins: 1, 2
1 alternate drawing of the same symbol

## CMP-00360-2
designator R?, comment Resistance: 1.2MR  Tolerance: 1%  (hidden comment: R0402_1M2_1pct)
Res Thick Film 0402 1.2M Ohm 1% 0.063W(1/16W) ±100ppm/C Pad SMD Automotive T/R; Manufacturer: Yageo; Manufacturer Part Number: AC0402FR-071M2L; Manufacturer: Stackpole Electronics; Manufacturer Part Number: RMCF0402FT1M20; Power Rating: 62.5mW; Temperature Coefficient: 100ppm/°C; Max Power Dissipation: 63mW; Install: POP; Voltage Rating: 50V; Max Operating Temperature: 155°C; Series: AC; Case Code (Imperial): 0402; Packaging: Tape and Reel; Case Code (Metric): 1005; Number of Terminations: 2; Termination: SMD/SMT; Min Operating Temperature: -55°C; Case/Package: 0402; Features: Moisture Resistant,Automotive AEC-Q200; Resistor Type: Thick Film; RoHS Compliant: Yes; Length: 0.039inch; Height: 0.015inch; Width: 0.5mm; Component Type: Resistors
footprint R0402
pins: 1, 2
1 alternate drawing of the same symbol

## CMP-00366-1
designator C?, comment Capacitance: 1nF  (hidden comment: C0402_1n_50V_10pct)
0402 1 nF 50V ±10 % Tolerance X7R Surface Mount Multilayer Ceramic Capacitor; Manufacturer: Kyocera AVX; Manufacturer Part Number: 04025C102KAT2A; Manufacturer: Yageo; Manufacturer Part Number: CC0402KPX7R9BB102; Manufacturer: Walsin Technologies; Manufacturer Part Number: 0402B102K500CT; Manufacturer: Samsung; Manufacturer Part Number: CL05B102KB5NFNC; Dissipation Factor: 2.5%; Install: POP; Tolerance: 10%; Insulation Resistance: 100GR; RoHS Compliant: Yes; Termination: SMD/SMT; Radiation Hardening: No; Length: 1mm; Contact Plating: Tin,Matte; Voltage Rating (DC): 50V; Thickness: 0.022inch; Case/Package: 0402; Height: 0.56mm; Mount: Surface Mount; Series: -; Construction: Flat; Lead Free: Lead Free; Case Code (Metric): 1005; Reach SVHC Compliant: Yes; Max Operating Temperature: 125°C; Width: 0.02inch; Depth: 0.5mm; Packaging: Tape and Reel; Number of Pins: 2; Voltage: 50V; Package Quantity: 1; Min Operating Temperature: -55°C; Dielectric: X7R; Voltage Rating: 50V; Case Code (Imperial): 0402; Component Type: Capacitors
footprint C0402
pins: 1, 2

## CMP-00369-1
designator C?, comment Capacitance: 100nF  (hidden comment: C0402_0u1_25V_10pct)
Cap Ceramic 0.1uF 25V X5R 10% Pad SMD 0402 Multi Layer Ceramic Capacitor (MLCC); Manufacturer: TDK; Manufacturer Part Number: C1005X5R1E104K050BC; Manufacturer: Taiyo Yuden; Manufacturer Part Number: TMK105BJ104KV-F; Manufacturer: Samsung; Manufacturer Part Number: CL05A104KA5NNNC; Install: POP; Packaging: Tape and Reel; Construction: Flat; Max Operating Temperature: 85°C; Case Code (Metric): 1005; Voltage Rating (DC): 25V; Min Operating Temperature: -55°C; Height: 0.5mm; Series: CL; Case/Package: 0402; Voltage: 25V; Package Quantity: 1; Radiation Hardening: No; Depth: 0.5mm; Thickness: 0.022inch; Lead Free: Lead Free; Tolerance: 10%; Length: 1mm; Mount: Surface Mount; Width: 0.02inch; Dielectric: X5R; RoHS Compliant: Yes; Voltage Rating: 25V; Case Code (Imperial): 0402; Component Type: Capacitors
footprint C0402
pins: 1, 2

## CMP-00374-1
designator C?, comment 4700pF
0402 4.7 nF 25 V ±10 % Tolerance X7R SMT Multilayer Ceramic Capacitor; Manufacturer: KEMET; Manufacturer Part Number: C0402C472K3RACTU; Manufacturer: Yageo; Manufacturer Part Number: CC0402KRX7R8BB472; Manufacturer: Kyocera AVX; Manufacturer Part Number: 04023C472KAT2A; Manufacturer: Murata; Manufacturer Part Number: GCM155R71E472KA37D; Tolerance: 10%; Voltage Rating: 25V; Install: POP; Insulation Resistance: 100GR; Capacitance: 4.7nF; Halogen Free: Halogen Free; Weight: 2.3E-05oz; Length: 1mm; Number of Pins: 2; Dielectric: X7R; Radiation Hardening: No; Depth: 0.5mm; Mount: Surface Mount; Min Operating Temperature: -55°C; Thickness: 0.022inch; Max Operating Temperature: 125°C; Dielectric Material: Ceramic; Height: 0.5mm; RoHS Compliant: Yes; Package Quantity: 1; Lead Free: Lead Free; Case Code (Metric): 1005; Voltage Rating (DC): 25V; Case/Package: 0402; Reach SVHC Compliant: Yes; Termination: SMD/SMT; Width: 0.5mm; Resistor Type: Ceramic; Packaging: Tape and Reel; Case Code (Imperial): 0402; Series: CC; Construction: Flat; Component Type: Capacitors
footprint C0402
pins: 1, 2

## CMP-00381-1
designator R?, comment 4.99k
Res General Purpose Thick Film 0402 4.99K Ohm 1% 1/16W ±100ppm/°C Molded SMD Paper T/R; Manufacturer: Panasonic; Manufacturer Part Number: ERJ-2RKF4991X; Manufacturer: Stackpole Electronics; Manufacturer Part Number: RMCF0402FT4K99; Manufacturer: Vishay; Manufacturer Part Number: CRCW04024K99FKED; Manufacturer: Yageo; Manufacturer Part Number: RC0402FR-074K99L; Install: POP; Max Power Dissipation: 63mW; Voltage Rating (DC): 50V; Resistance: 4.99kR; Power Rating: 62.5mW; Max Operating Temperature: 155°C; Width: 0.02inch; Series: RC; Case/Package: 0402; Number of Terminations: 2; Package Quantity: 1; Voltage Rating: 50V; Packaging: Tape and Reel; Features: Moisture Resistant; Construction: Rectangular; Resistor Type: Thick Film; Case Code (Imperial): 0402; Case Code (Metric): 1005; Tolerance: 1%; Height: 0.016inch; Min Operating Temperature: -55°C; RoHS Compliant: Yes; Termination: SMD/SMT; Reach SVHC Compliant: Yes; Lead Free: Lead Free; Size Code: 0402; Military Standard: Not; Temperature Coefficient: 100ppm/°C; Resistance Tolerance: 1%; Length: 1mm; Depth: 0.5mm; Component Type: Resistors
footprint R0402
pins: 1, 2
1 alternate drawing of the same symbol

## CMP-00382-1
designator R?, comment Tolerance: 1%  Resistance: 249kR  (hidden comment: R0402_249k_1pct)
Res Thick Film 0402 249K Ohm 1% 0.063W ±100ppm/°C Molded SMD Paper T/R; Manufacturer: Bourns; Manufacturer Part Number: CR0402-FX-2493GLF; Manufacturer: Stackpole Electronics; Manufacturer Part Number: RMCF0402FT249K; Manufacturer: Panasonic; Manufacturer Part Number: ERJ-2RKF2493X; Manufacturer: Yageo; Manufacturer Part Number: RC0402FR-07249KL; Max Power Dissipation: 63mW; Install: POP; Series: RMCF; Max Operating Temperature: 155°C; Temperature Coefficient: 100ppm/°C; Height: 0.016inch; Mount: Surface Mount; Case Code (Metric): 1005; Packaging: Tape and Reel; Case Code (Imperial): 0402; Min Operating Temperature: -55°C; Length: 0.039inch; Ratings: AEC-Q200; Features: Automotive AEC-Q200; Radiation Hardening: No; Depth: 0.5mm; Military Standard: Not; Number of Terminations: 2; RoHS Compliant: Yes; Width: 0.02inch; Case/Package: 0402; Resistor Type: Thick Film; Construction: Rectangular; Contact Plating: Tin,Matte; Component Type: Resistors
footprint R0402
pins: 1, 2
1 alternate drawing of the same symbol

## CMP-00390-1
designator R?, comment 2k
Res General Purpose Thick Film 0402 2K Ohm 1% 1/16W ±100ppm/°C Molded SMD Paper T/R; Manufacturer: Yageo; Manufacturer Part Number: RC0402FR-072KL; Manufacturer: Stackpole Electronics; Manufacturer Part Number: RMCF0402FT2K00; Manufacturer: Panasonic; Manufacturer Part Number: ERJ-2RKF2001X; Voltage Rating (DC): 50V; Power Rating: 63mW; Install: POP; Resistance: 2kR; Case/Package: 0402; Lead Free: Lead Free; Min Operating Temperature: -55°C; Number of Terminations: 2; Termination: SMD/SMT; Resistor Type: Thick Film; Case Code (Metric): 1005; Temperature Coefficient: 100ppm/°C; Width: 0.02inch; Depth: 0.5mm; Case Code (Imperial): 0402; RoHS Compliant: Yes; Working Voltage: 50V; Max Power Dissipation: 63mW; Military Standard: Not; Series: RC; Height: 0.016inch; Construction: Rectangular; Packaging: Tape and Reel; Length: 0.039inch; Tolerance: 1%; Resistance Tolerance: 1%; Technology: THICK FILM; Max Operating Temperature: 155°C; Package Quantity: 1; Features: Moisture Resistant; Voltage Rating: 50V; Component Type: Resistors
footprint R0402
pins: 1, 2
1 alternate drawing of the same symbol

## CMP-00405-3
designator R?, comment Resistance: 2.2kR  (hidden comment: R0402_2k2_5pct)
Res Thick Film 0402 2.2K Ohm 5% 1/10W +/-200ppm/ßC Molded SMD Punched Carrier T/R; Manufacturer: KOA Speer; Manufacturer Part Number: RK73B1ETTP222J; Manufacturer: Panasonic; Manufacturer Part Number: ERJ-2GEJ222X; Temperature Coefficient: 200ppm/°C; Max Power Dissipation: 100mW; Install: POP; Voltage Rating: 50V; Width: 0.5mm; Radiation Hardening: No; Ratings: AEC-Q200; Resistor Type: Thick Film; Construction: Rectangular; Packaging: Tape and Reel; Case Code (Metric): 1005; Package Quantity: 10000; Min Operating Temperature: -55°C; Weight: 2.8E-05oz; Height: 0.35mm; Max Operating Temperature: 155°C; Contact Plating: Tin; Case/Package: 0402; Features: Automotive AEC-Q200; Termination: SMD/SMT; Lead Free: Lead Free; Resistance Tolerance: 5%; Reach SVHC Compliant: Yes; Depth: 0.5mm; Length: 1mm; Size Code: 0402; Number of Terminations: 2; Technology: THICK FILM; Power Rating: 100mW; Military Standard: Not; Tolerance: 5%; Series: ERJ; RoHS Compliant: Yes; Voltage Rating (DC): 50V; Case Code (Imperial): 0402; Mount: Surface Mount; Component Type: Resistors
footprint R0402
pins: 1, 2
1 alternate drawing of the same symbol

## CMP-00446-1
designator C?, comment 0.1uF
Ceramic capacitor SMD 0402 100nF 16V X7R 10%; Manufacturer: Samsung; Manufacturer Part Number: CL05B104KO5NNNC; Manufacturer: Murata; Manufacturer Part Number: GRM155R71C104KA88D; Manufacturer: Yageo; Manufacturer Part Number: CC0402KRX7R7BB104; Install: POP; Voltage: 16V; Mounting Technology: Surface Mount; Width: 0.02inch; Case Code (Metric): 1005; Package Quantity: 1; Depth: 0.5mm; RoHS Compliant: Yes; Length: 1mm; Tolerance: 10%; Value: 100nF; Radiation Hardening: No; Contact Plating: Tin; Packaging: Tape and Reel; Voltage Rating (DC): 16V; Thickness: 0.022inch; Case Code (Imperial): 0402; Case/Package: 0402; Min Operating Temperature: -55°C; Max Operating Temperature: 125°C; Voltage Rating: 16V; Height: 0.5mm; Series: CL; Material: Ceramic; Construction: Flat; Lead Free: Lead Free; Dielectric: X7R; Component Type: Capacitors
footprint C0402
pins: 1, 2

## CMP-00457-1
designator R?, comment 30k
Res General Purpose Thick Film 0402 30k Ohm 1% 1/16W ±100ppm/°C Molded Paper T/R; Manufacturer: Stackpole Electronics; Manufacturer Part Number: RMCF0402FT30K0; Manufacturer: Yageo; Manufacturer Part Number: RC0402FR-0730KL; Power Rating: 63mW; Install: POP; Voltage Rating (DC): 50V; Value: 30kR; Width: 0.5mm; Termination: SMD/SMT; Tolerance: 1%; Min Operating Temperature: -55°C; Max Power Dissipation: 63mW; Packaging: Tape and Reel; Resistance Tolerance: 1%; Lead Free: Lead Free; Max Operating Temperature: 155°C; Series: RC; Length: 1mm; Voltage Rating: 50V; Case/Package: 0402; Weight: 2.3E-05oz; Height: 0.35mm; Case Code (Metric): 1005; Number of Terminations: 2; Military Standard: Not; RoHS Compliant: Yes; Depth: 0.5mm; Features: Moisture Resistant; Case Code (Imperial): 0402; Construction: Rectangular; Resistor Type: Thick Film; Temperature Coefficient: 100ppm/°C; Component Type: Resistors
footprint R0402
pins: 1, 2
1 alternate drawing of the same symbol

## CMP-00507-2
designator C?, comment 10uF
Ceramic capacitor SMD; 0402; 10uF; 10V; X5R; 20%; Manufacturer: Samsung; Manufacturer Part Number: CL05A106MP5NUNC; Install: POP; Capacitance: 10uF; Dielectric: X5R; Tolerance: 20%; Voltage Rating: 10V; Case Code (Imperial): 0402; Component Type: Capacitors
footprint C0402
pins: 1, 2

## CMP-00549-5
designator J?, comment MEM2085-00-115-00-A
9 (8 + 1) Position Secure Digital microSD SMT Right Angle Card Connector; Manufacturer: Global Connector Technology; Install: POP; Manufacturer Part Number: MEM2085-00-115-00-A; Component Type: Connectors
footprint GCT_MEM2085-00-115-00-A_REV0.2 (GCT Micro CD Memory Card Connector, Push-Pull, 1.15mm profile)
pins: CD (out), P1 DAT2 (io), P2 CD/DAT3 (io), P3 CMD (in), P4 VDD, P5 CLK (in), P6 VSS, P7 DAT0 (io), P8 DAT1 (io)

## CMP-00550-6
designator D?, comment IP4220CZ6F
IC USB DUAL ESD PROTEC 6TSOP; Manufacturer: Nexperia; RoHS Compliant: Yes; Manufacturer Part Number: IP4220CZ6F; Component Type: Miscellaneous
footprint SOT23-6PIN (SOT23, 6-Leads, Body 2.9x1.55mm, Pitch 0.95mm, IPC High Density)
pins: 1 I/O1, 2 GND (power), 3 I/O2, 4 I/O3, 5 VP (power), 6 I/O4